# Altium schematic symbol library INTEL_EDISON.Schlib: 1 symbol
Pins are listed as number, name and electrical type; pins without a type are passive.

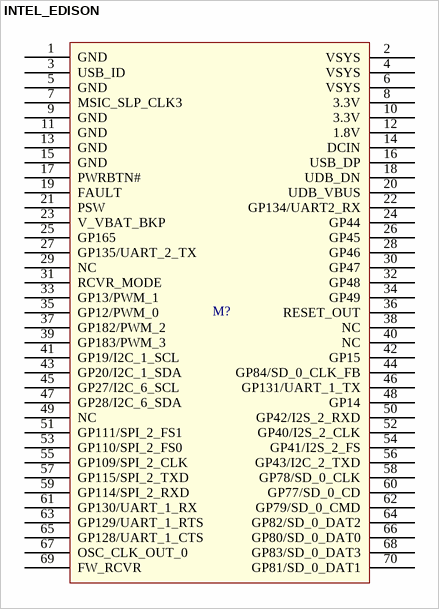
[diagram p0: symbol INTEL_EDISON]

## INTEL_EDISON
designator M?  (value not drawn)
INTEL EDISON SoM
pins: 1 GND, 2 VSYS, 3 USB_ID, 4 VSYS, 5 GND, 6 VSYS, 7 MSIC_SLP_CLK3, 8 3.3V, 9 GND, 10 3.3V, 11 GND, 12 1.8V, 13 GND, 14 DCIN, 15 GND, 16 USB_DP, 17 PWRBTN#, 18 UDB_DN, 19 FAULT, 20 UDB_VBUS, 21 PSW, 22 GP134/UART2_RX, 23 V_VBAT_BKP, 24 GP44, 25 GP165, 26 GP45, 27 GP135/UART_2_TX, 28 GP46, 29 NC, 30 GP47, 31 RCVR_MODE, 32 GP48, 33 GP13/PWM_1, 34 GP49, 35 GP12/PWM_0, 36 RESET_OUT, 37 GP182/PWM_2, 38 NC, 39 GP183/PWM_3, 40 NC, 41 GP19/I2C_1_SCL, 42 GP15, 43 GP20/I2C_1_SDA, 44 GP84/SD_0_CLK_FB, 45 GP27/I2C_6_SCL, 46 GP131/UART_1_TX, 47 GP28/I2C_6_SDA, 48 GP14, 49 NC, 50 GP42/I2S_2_RXD, 51 GP111/SPI_2_FS1, 52 GP40/I2S_2_CLK, 53 GP110/SPI_2_FS0, 54 GP41/I2S_2_FS, 55 GP109/SPI_2_CLK, 56 GP43/I2C_2_TXD, 57 GP115/SPI_2_TXD, 58 GP78/SD_0_CLK, 59 GP114/SPI_2_RXD, 60 GP77/SD_0_CD, 61 GP130/UART_1_RX, 62 GP79/SD_0_CMD, 63 GP129/UART_1_RTS, 64 GP82/SD_0_DAT2, 65 GP128/UART_1_CTS, 66 GP80/SD_0_DAT0, 67 OSC_CLK_OUT_0, 68 GP83/SD_0_DAT3, 69 FW_RCVR, 70 GP81/SD_0_DAT1